# EAGLE library part DC_DC_CONVERTER (library DC_DC_CONVERTER)
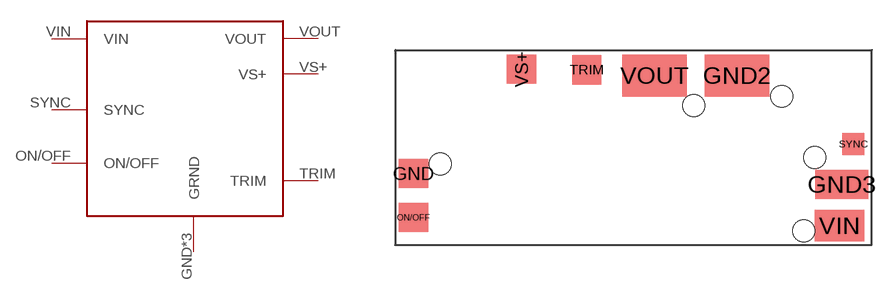
[diagram p0: symbol with the pads of DC_DC_CONVERTER; footprint DC_DC_CONVERTER]

Designator prefix -

## DC_DC_CONVERTER  [DC_DC_CONVERTER]
GND  GRND
GND2  GRND
GND3  GRND
ON/OFF  ON/OFF
SYNC  SYNC
TRIM  TRIM
VIN  VIN
VOUT  VOUT
VS+  VS+

## Footprint DC_DC_CONVERTER (pad centres in mm)
smd 2.03 x 2.03: GND 1.27,4.95; ON/OFF 1.27,1.91; TRIM 13.27,12.15; VS+ 8.76,12.19
smd 4.45 x 2.92: GND2 23.69,11.75; VOUT 17.97,11.75
smd 3.68 x 2.03: GND3 30.94,4.19
smd 1.52 x 1.52: SYNC 31.75,6.99
smd 3.43 x 2.16: VIN 30.8,1.33
hole 1.52 at 3.12,5.61
hole 1.52 at 20.7,9.68
hole 1.52 at 26.8,10.31
hole 1.52 at 29.08,6.07
hole 1.52 at 28.32,0.97